# EAGLE library part HEADER-1.27-SMT-M (library con-headers)
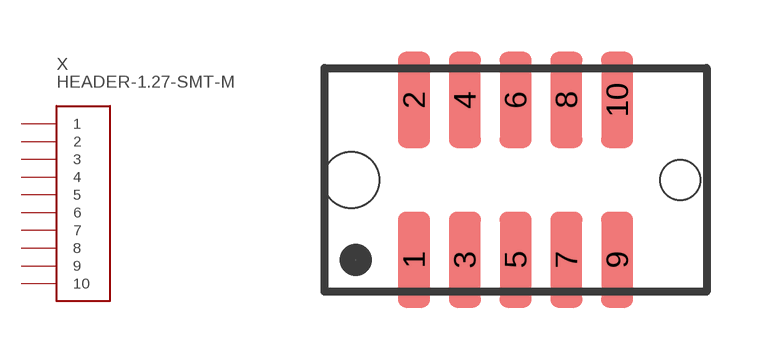
[diagram p2: symbol with the pads of HEADER-1.27-SMT-M; footprint HEADER-1.27-SMT-M]

Designator prefix X

## HEADER-1.27-SMT-M  [HEADER-1.27-SMT-M]
1  1
2  2
3  3
4  4
5  5
6  6
7  7
8  8
9  9
10  10

## Footprint HEADER-1.27-SMT-M (pad centres in mm)
smd 0.8 x 2.4: 1 -2.54,-2; 2 -2.54,2; 3 -1.27,-2; 4 -1.27,2; 5 0,-2; 6 0,2; 7 1.27,-2; 8 1.27,2; 9 2.54,-2; 10 2.54,2
hole 1 at 4.115,0
hole 1.4 at -4.115,0